# Altium schematic symbol library STM.SchLib: 1 symbol
Pins are listed as number, name and electrical type; pins without a type are passive.

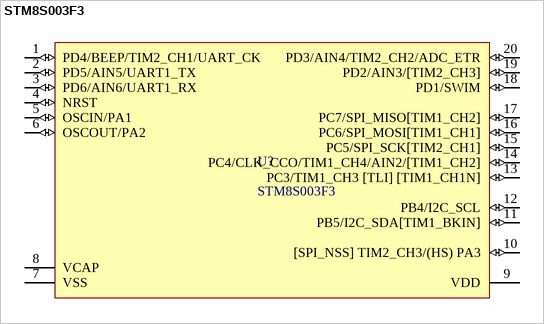
[diagram p0: symbol STM8S003F3]

## STM8S003F3
designator U?
STM8S 8-bit MCU 16 MHz, 8 Kbyte Flash, 128 byte data EEPROM, 10-bit ADC, 3 timers, UART, SPI, I²C, 20-Pin SSOP20
footprint DIP20
footprint TSSOP20
pins: 1 PD4/BEEP/TIM2_CH1/UART_CK (io), 2 PD5/AIN5/UART1_TX (io), 3 PD6/AIN6/UART1_RX (io), 4 NRST (io), 5 OSCIN/PA1 (io), 6 OSCOUT/PA2 (io), 7 VSS, 8 VCAP, 9 VDD, 10 [SPI_NSS] TIM2_CH3/(HS) PA3 (io), 11 PB5/I2C_SDA[TIM1_BKIN] (io), 12 PB4/I2C_SCL (io), 13 PC3/TIM1_CH3 [TLI] [TIM1_CH1N] (io), 14 PC4/CLK_CCO/TIM1_CH4/AIN2/[TIM1_CH2] (io), 15 PC5/SPI_SCK[TIM2_CH1] (io), 16 PC6/SPI_MOSI[TIM1_CH1] (io), 17 PC7/SPI_MISO[TIM1_CH2] (io), 18 PD1/SWIM (io), 19 PD2/AIN3/[TIM2_CH3] (io), 20 PD3/AIN4/TIM2_CH2/ADC_ETR (io)